# Altium footprint library CAP220.PcbLib: 1 footprints
Each footprint in its own frame and in the unit in brackets; x right, y up, seen from the top. Pads: shape width x height; smd on the part's side, far side on the other; paste and mask are expansions set on the pad; w line width, h text height; cw(c..) or ccw(c..) is an arc to the next point about the centre after c.
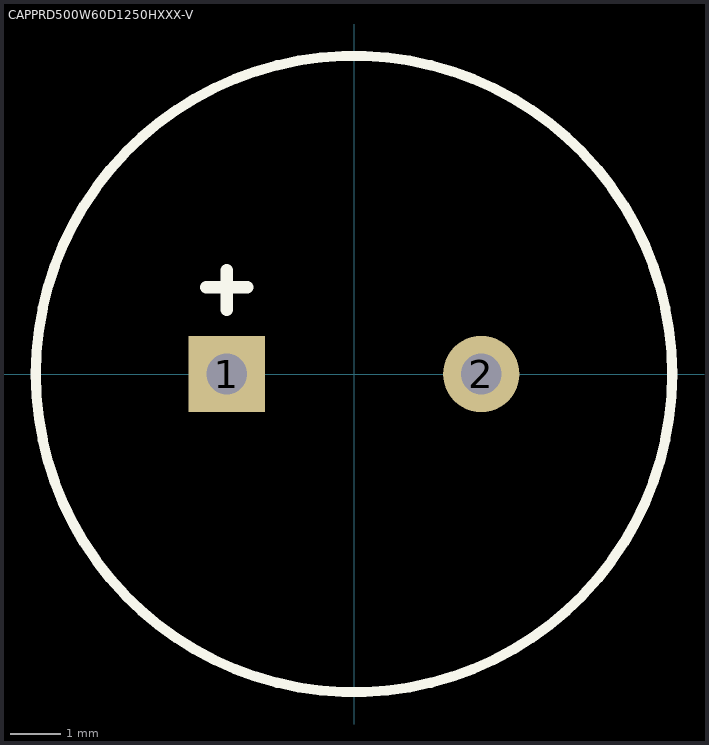
[diagram p0: the footprint, top view; thin cyan lines are the x and y axes]

## CAPPRD500W60D1250HXXX-V [mm]
height 27
pads (2):
  rect 1.5x1.5 hole 0.8: 1(-2.5,0)
  round 1.5 hole 0.8: 2(2.5,0)
Top Overlay:
  circle w0.2: c0,0 r6.25
  lines w0.254: -2.9,1.704 -2.1,1.704 ; -2.5,1.27 -2.5,2.032
3D body "User Library-CapAluRadial_D125H300P50.step": height 30.2, standoff -2.8, extent -6.25,-6.247 6.251,6.247